# Altium footprint library Quark.PcbLib: 17 footprints (part 1 of 2)
Each footprint in its own frame and in the unit in brackets; x right, y up, seen from the top. Pads: shape width x height; smd on the part's side, far side on the other; paste and mask are expansions set on the pad; w line width, h text height; cw(c..) or ccw(c..) is an arc to the next point about the centre after c.
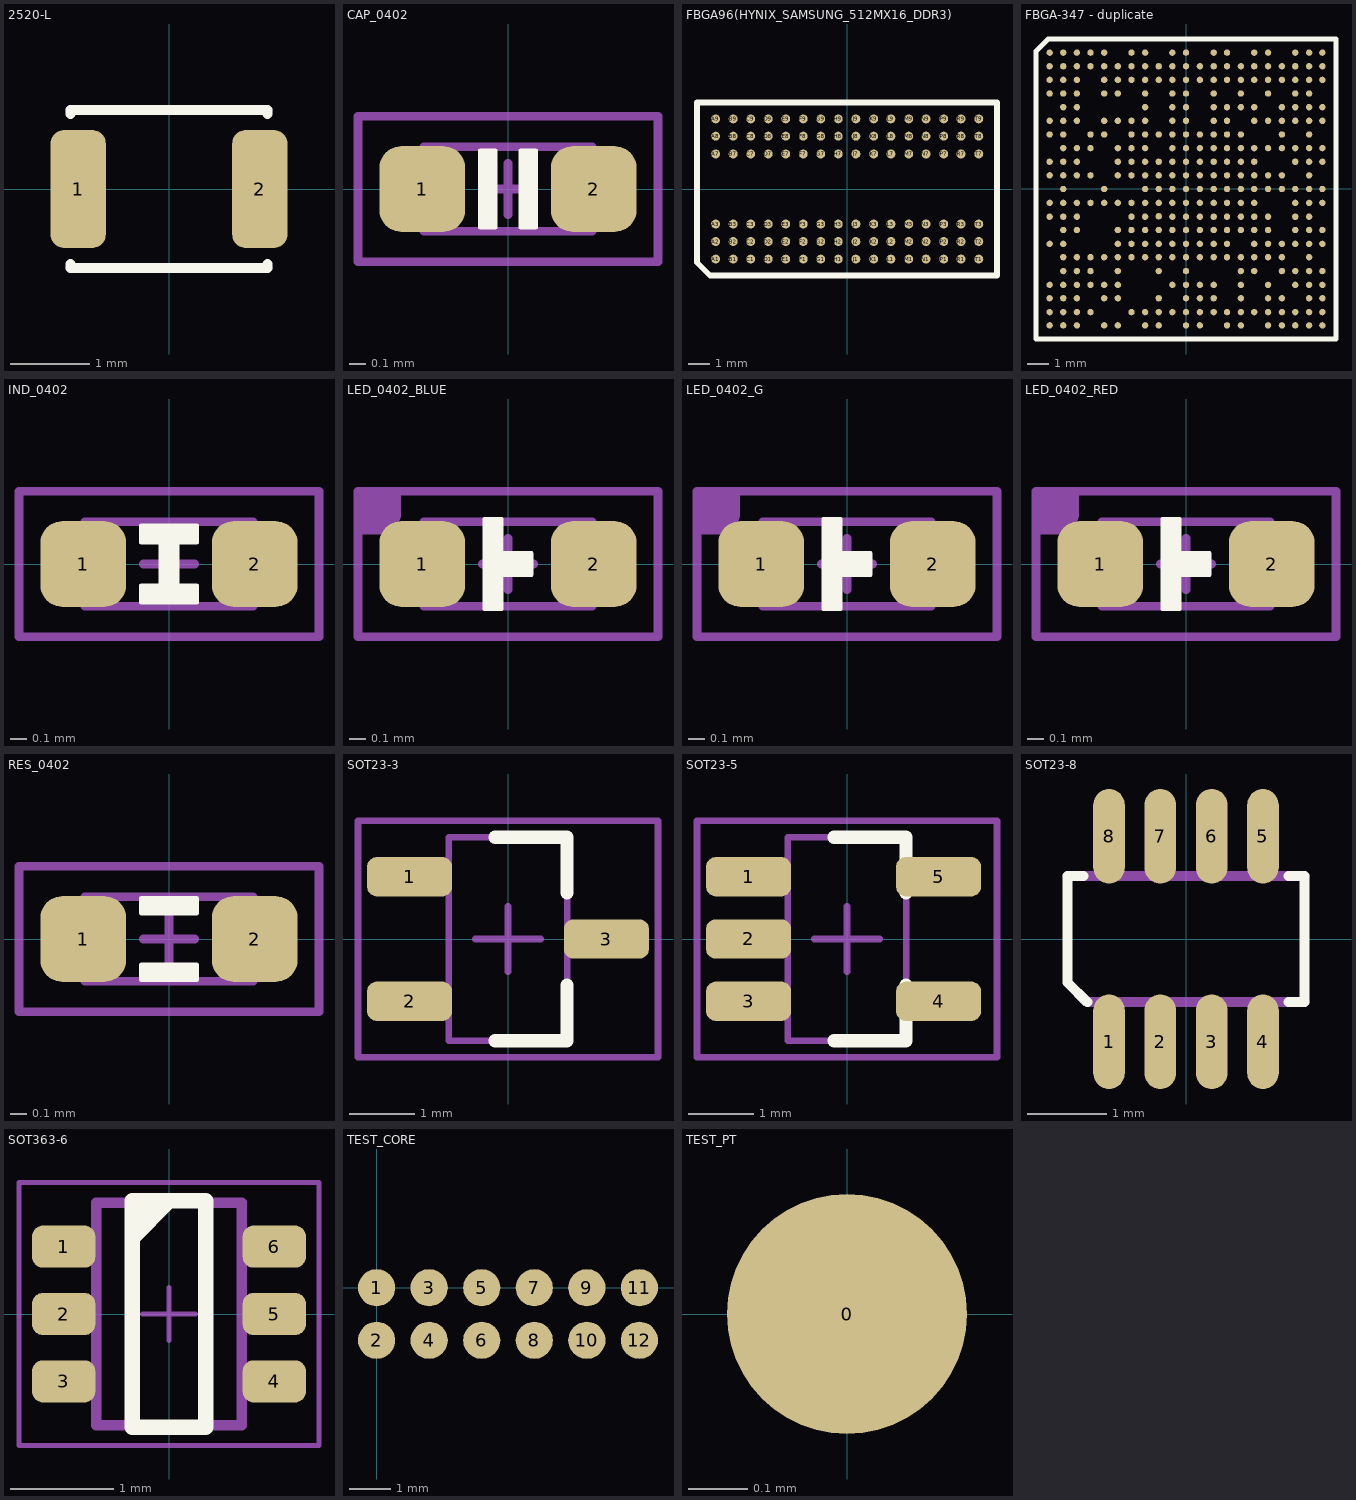
[diagram p0: the footprints below, top view; thin cyan lines are the x and y axes]

## 2520-L [mm]
height 0.8
pads (2):
  rrect50% 0.7x1.5 smd: 1(-1.15,0) 2(1.15,0)
Top Overlay:
  lines w0.127: -1.25,-0.95 -1.25,-1 1.25,-1 1.25,-0.95 ; -1.25,0.95 -1.25,1 1.25,1 1.25,0.95
Mechanical 1:
  lines w0.127: -1.25,-1 1.25,-1 ; -1.25,1 1.25,1
3D body "User Library-Chip InductorINDC2012X95N.STEP": height 0.92, standoff -0.03, extent -1,-0.6 1,0.6

## CAP_0402 [mil]
height 21.65
pads (2):
  rrect50% 20x20 smd: 1(-20,0) 2(20,0)
Top Overlay:
  region: 6.5,-9 3,-9 3,9 6.5,9
  region: -6.5,9 -3,9 -3,-9 -6.5,-9
  lines w1: -6.5,-9 -6.5,9 -3,9 -3,-9 -6.5,-9 ; 3,-9 6.5,-9 6.5,9 3,9 3,-9
Mechanical 13:
  lines w2: -6,0 6,0 ; 0,-6 0,6 ; -19.69,-9.84 19.68,-9.84 19.68,9.84 -19.69,9.84 -19.69,-9.84
Mechanical 14:
  lines w2: -35,-17 35,-17 35,17 -35,17 -35,-17
3D body "CAPC1005X05L.step": height 19.68, standoff 0, extent -19.68,-9.84 19.69,9.85

## FBGA96(HYNIX_SAMSUNG_512MX16_DDR3) [mil] "FBGA96(HYNIX_SAMSUNG_512MX16_DDR3)"
pads (96):
  rrect100% 16x16 smd: A1(-236.22,-125.98) A2(-236.22,-94.49) A3(-236.22,-62.99) A7(-236.22,63) A8(-236.22,95) A9(-236.22,126) B1(-204.72,-125.98) B2(-204.72,-94.49) B3(-204.72,-62.99) B7(-204.72,63) B8(-204.72,95) B9(-204.72,126) C1(-173.23,-125.98) C2(-173.23,-94.49) C3(-173.23,-62.99) C7(-173.23,63) C8(-173.23,95) C9(-173.23,126) D1(-141.73,-125.98) D2(-141.73,-94.49) D3(-141.73,-62.99) D7(-141.73,63) D8(-141.73,95) D9(-141.73,126) E1(-110.24,-125.98) E2(-110.24,-94.49) E3(-110.24,-62.99) E7(-110.24,63) E8(-110.24,95) E9(-110.24,126) F1(-78.74,-125.98) F2(-78.74,-94.49) F3(-78.74,-62.99) F7(-78.74,63) F8(-78.74,95) F9(-78.74,126) G1(-47.24,-125.98) G2(-47.24,-94.49) G3(-47.24,-62.99) G7(-47.24,63) G8(-47.24,95) G9(-47.24,126) H1(-15.75,-125.98) H2(-15.75,-94.49) H3(-15.75,-62.99) H7(-15.75,63) H8(-15.75,95) H9(-15.75,126) J1(16,-125.98) J2(16,-94.49) J3(16,-62.99) J7(16,63) J8(16,95) J9(16,126) K1(48,-125.98) K2(48,-94.49) K3(48,-62.99) K7(48,63) K8(48,95) K9(48,126) L1(79,-125.98) L2(79,-94.49) L3(79,-62.99) L7(79,63) L8(79,95) L9(79,126) M1(111,-125.98) M2(111,-94.49) M3(111,-62.99) M7(111,63) M8(111,95) M9(111,126) N1(142,-125.98) N2(142,-94.49) N3(142,-62.99) N7(142,63) N8(142,95) N9(142,126) P1(174,-125.98) P2(174,-94.49) P3(174,-62.99) P7(174,63) P8(174,95) P9(174,126) R1(205,-125.98) R2(205,-94.49) R3(205,-62.99) R7(205,63) R8(205,95) R9(205,126) T1(237,-125.98) T2(237,-94.49) T3(237,-62.99) T7(237,63) T8(237,95) T9(237,126)
Top Overlay:
  lines w10: -269.69,-131.89 -246.06,-155.51 269.69,-155.51 269.69,155.51 -269.69,155.51 -269.69,-131.89
3D body "User Library-FBGA96_14x8mm.STEP": height 45.28, standoff -7.39, extent -275.59,-157.48 275.59,157.48

## FBGA-347 - duplicate [mil] "FBGA-347"
pads (347):
  rrect100% 12x12 smd: A1(-255.91,255.91) A2(-230.31,255.91) A3(-204.72,255.91) A4(-179.13,255.91) A5(-153.54,255.91) A7(-102.36,255.91) A8(-76.77,255.91) A10(-25.59,255.91) A11(0,255.91) A13(52,255.91) A14(77,255.91) A16(128,255.91) A17(154,255.91) A19(205,255.91) A20(231,255.91) A21(256,255.91) AA1(-255.91,-256) AA2(-230.31,-256) AA3(-204.72,-256) AA5(-153.54,-256) AA6(-127.95,-256) AA8(-76.77,-256) AA9(-51.18,-256) AA11(0,-256) AA12(26,-256) AA14(77,-256) AA15(103,-256) AA17(154,-256) AA18(180,-256) AA19(205,-256) AA20(231,-256) AA21(256,-256) B1(-255.91,230.31) B2(-230.31,230.31) B3(-204.72,230.31) B4(-179.13,230.31) B5(-153.54,230.31) B6(-127.95,230.31) B7(-102.36,230.31) B8(-76.77,230.31) B9(-51.18,230.31) B10(-25.59,230.31) B11(0,230.31) B12(26,230.31) B13(52,230.31) B14(77,230.31) B15(103,230.31) B16(128,230.31) B17(154,230.31) B18(180,230.31) B19(205,230.31) B20(231,230.31) B21(256,230.31) C1(-255.91,204.72) C2(-230.31,204.72) C3(-204.72,204.72) C5(-153.54,204.72) C6(-127.95,204.72) C7(-102.36,204.72) C8(-76.77,204.72) C9(-51.18,204.72) C10(-25.59,204.72) C11(0,204.72) C12(26,204.72) C13(52,204.72) C14(77,204.72) C15(103,204.72) C16(128,204.72) C17(154,204.72) C18(180,204.72) C19(205,204.72) C20(231,204.72) C21(256,204.72) D1(-255.91,179.13) D2(-230.31,179.13) D3(-204.72,179.13) D5(-153.54,179.13) D6(-127.95,179.13) D8(-76.77,179.13) D10(-25.59,179.13) D11(0,179.13) D13(52,179.13) D15(103,179.13) D17(154,179.13) D19(205,179.13) D20(231,179.13) E2(-230.31,153.54) E3(-204.72,153.54) E8(-76.77,153.54) E10(-25.59,153.54) E11(0,153.54) E13(52,153.54) E14(77,153.54) E15(103,153.54) E16(128,153.54) E18(180,153.54) E19(205,153.54) E20(231,153.54) E21(256,153.54) F1(-255.91,127.95) F2(-230.31,127.95) F3(-204.72,127.95) F5(-153.54,127.95) F6(-127.95,127.95) F7(-102.36,127.95) F8(-76.77,127.95) F10(-25.59,127.95) F11(0,127.95) F13(52,127.95) F14(77,127.95) F16(128,127.95) F17(154,127.95) F18(180,127.95) F19(205,127.95) F20(231,127.95) F21(256,127.95) G1(-255.91,102.36) G2(-230.31,102.36) G4(-179.13,102.36) G5(-153.54,102.36) G7(-102.36,102.36) G8(-76.77,102.36) G9(-51.18,102.36) G10(-25.59,102.36) G11(0,102.36) G12(26,102.36) G13(52,102.36) G14(77,102.36) G15(103,102.36) G18(180,102.36) G20(231,102.36) H2(-230.31,76.77) H3(-204.72,76.77) H4(-179.13,76.77) H6(-127.95,76.77) H7(-102.36,76.77) H8(-76.77,76.77) H10(-25.59,76.77) H11(0,76.77) H12(26,76.77) H13(52,76.77) H14(77,76.77) H15(103,76.77) H16(128,76.77) H17(154,76.77) H18(180,76.77) H19(205,76.77) H20(231,76.77) H21(256,76.77) J1(-255.91,51.18) J2(-230.31,51.18) J3(-204.72,51.18) J6(-127.95,51.18) J7(-102.36,51.18) J8(-76.77,51.18) J9(-51.18,51.18) J10(-25.59,51.18) J11(0,51.18) J12(26,51.18) J13(52,51.18) J14(77,51.18) J15(103,51.18) J16(128,51.18) J19(205,51.18) J20(231,51.18) J21(256,51.18) K1(-255.91,25.59) K2(-230.31,25.59) K3(-204.72,25.59) K4(-179.13,25.59) K6(-127.95,25.59) K7(-102.36,25.59) K8(-76.77,25.59) K9(-51.18,25.59) K10(-25.59,25.59) K11(0,25.59) K12(26,25.59) K13(52,25.59) K14(77,25.59) K15(103,25.59) K16(128,25.59) K17(154,25.59) K18(180,25.59) K20(231,25.59) L2(-230.31,0) L5(-153.54,0) L8(-76.77,0) L9(-51.18,0) L10(-25.59,0) L11(0,0) L12(26,0) L13(52,0) L14(77,0) L15(103,0) L16(128,0) L17(154,0) L18(180,0) L19(205,0) L20(231,0) L21(256,0) M1(-255.91,-26) M2(-230.31,-26) M3(-204.72,-26) M4(-179.13,-26) M5(-153.54,-26) M6(-127.95,-26) M7(-102.36,-26) M8(-76.77,-26) M9(-51.18,-26) M10(-25.59,-26) M11(0,-26) M12(26,-26) M13(52,-26) M14(77,-26) M15(103,-26) M16(128,-26) M19(205,-26) M20(231,-26) M21(256,-26) N1(-255.91,-52) N2(-230.31,-52) N3(-204.72,-52) N7(-102.36,-52) N8(-76.77,-52) N9(-51.18,-51.18) N10(-25.59,-52) N11(0,-52) N12(26,-52) N13(52,-52) N14(77,-52) N15(103,-52) N16(128,-52) N17(154,-52) N19(205,-52) N20(231,-52) P2(-230.31,-77) P3(-204.72,-77) P6(-127.95,-77) P7(-102.36,-77) P8(-76.77,-77) P9(-51.18,-77) P10(-25.59,-77) P11(0,-77) P12(26,-77) P13(52,-77) P14(77,-77) P15(103,-77) P16(128,-77) P17(154,-77) P19(205,-77) P20(231,-77) P21(256,-77) R1(-255.91,-103) R2(-230.31,-103) R6(-127.95,-103) R7(-102.36,-103) R8(-76.77,-103) R9(-51.18,-103) R10(-25.59,-103) R11(0,-103) R12(26,-103) R13(52,-103) R14(77,-103) R16(128,-103) R17(154,-103) R18(180,-103) R19(205,-103) R20(231,-103) R21(256,-103) T2(-230.31,-128) T3(-204.72,-128) T4(-179.13,-128) T5(-153.54,-128) T6(-127.95,-128) T7(-102.36,-128) T8(-76.77,-128) T9(-51.18,-128) T10(-25.59,-128) T11(0,-128) T12(26,-128) T13(52,-128) T14(77,-128) T15(103,-128) T16(128,-128) T17(154,-128) T18(180,-128) T20(231,-128) U2(-230.31,-154) U3(-204.72,-154) U4(-179.13,-154) U6(-127.95,-154) U9(-51.18,-154) U11(0,-154) U15(103,-154) U16(128,-154) U18(180,-154) U19(205,-154) U20(231,-154) U21(256,-154) V1(-255.91,-180) V2(-230.31,-180) V3(-204.72,-180) V4(-179.13,-180) V5(-153.54,-180) V6(-127.95,-180) V10(-25.59,-180) V11(0,-180) V12(26,-180) V13(52,-180) V15(103,-180) V17(154,-180) V19(205,-180) V20(231,-180) V21(256,-180) W1(-255.91,-205) W2(-230.31,-205) W3(-204.72,-205) W5(-153.54,-205) W6(-127.95,-205) W9(-51.18,-205) W11(0,-205) W12(26,-205) W13(52,-205) W15(103,-205) W17(154,-205) W18(180,-205) W20(231,-205) W21(256,-205) Y1(-255.91,-231) Y2(-230.31,-231) Y3(-204.72,-231) Y4(-179.13,-231) Y7(-102.36,-231) Y8(-76.77,-231) Y9(-51.18,-231) Y10(-25.59,-231) Y11(0,-231) Y12(26,-231) Y13(52,-231) Y14(77,-231) Y15(103,-231) Y16(128,-231) Y17(154,-231) Y18(180,-231) Y19(205,-231) Y20(231,-231) Y21(256,-231)
Top Overlay:
  lines w10: 281,281.49 -258.51,281.49 -281.5,258.5 -281.5,-281.5 281.49,-281.5 281.49,281
3D body "SW3dPS-BGA-EP9307.STEP": height 53.65, standoff -3.36, extent -275.59,-275.59 275.59,275.59

## IND_0402 [mil]
height 21.65
pads (2):
  rrect50% 20x20 smd: 1(-20,0) 2(20,0)
Top Overlay:
  region: -6.5,9 6.5,9 6.5,5 2,5 2,-5 6.5,-5 6.5,-9 -6.5,-9 -6.5,-5 -2,-5 -2,5 -6.5,5
  lines w1: -6.5,-9 6.5,-9 6.5,-5 2,-5 2,5 6.5,5 6.5,9 -6.5,9 -6.5,5 -2,5 -2,-5 -6.5,-5 -6.5,-9
Mechanical 13:
  lines w2: -6,0 6,0 ; 0,-6 0,6 ; -19.69,-9.84 19.68,-9.84 19.68,9.84 -19.69,9.84 -19.69,-9.84
Mechanical 14:
  lines w2: -35,-17 35,-17 35,17 -35,17 -35,-17
3D body "INDC1005X05L.step": height 19.68, standoff 0, extent -19.68,-9.84 19.69,9.85

## LED_0402_BLUE [mil]
pads (2):
  rrect50% 20x20 smd: 1(-20,0) 2(20,0)
Top Overlay:
  region: -5.5,10.5 -1.5,10.5 -1.5,2.5 5.5,2.5 5.5,-2.5 -1.5,-2.5 -1.5,-10.5 -5.5,-10.5
  lines w1: -5.5,-10.5 -5.5,10.5 -1.5,10.5 -1.5,2.5 5.5,2.5 5.5,-2.5 -1.5,-2.5 -1.5,-10.5 -5.5,-10.5
Mechanical 13:
  lines w2: -6,0 6,0 ; 0,-6 0,6 ; -19.69,-9.84 19.68,-9.84 19.68,9.84 -19.69,9.84 -19.69,-9.84
Mechanical 14:
  region: -35,17 -25,17 -25,12 -25,11.01 -25.76,9.17 -27.17,7.76 -29.01,7 -30,7 -35,7
  lines w2: -35,-17 -35,17 35,17 35,-17 -35,-17
3D body "User Library-led_0402LED0402 blue_.STEP": height 17.72, standoff 0, extent -19.88,-9.84 19.88,9.85

## LED_0402_G [mil]
pads (2):
  rrect50% 20x20 smd: 1(-20,0) 2(20,0)
Top Overlay:
  region: -5.5,10.5 -1.5,10.5 -1.5,2.5 5.5,2.5 5.5,-2.5 -1.5,-2.5 -1.5,-10.5 -5.5,-10.5
  lines w1: -5.5,-10.5 -5.5,10.5 -1.5,10.5 -1.5,2.5 5.5,2.5 5.5,-2.5 -1.5,-2.5 -1.5,-10.5 -5.5,-10.5
Mechanical 13:
  lines w2: -6,0 6,0 ; 0,-6 0,6 ; -19.69,-9.84 19.68,-9.84 19.68,9.84 -19.69,9.84 -19.69,-9.84
Mechanical 14:
  region: -35,17 -25,17 -25,12 -25,11.01 -25.76,9.17 -27.17,7.76 -29.01,7 -30,7 -35,7
  lines w2: -35,-17 -35,17 35,17 35,-17 -35,-17
3D body "User Library-led_0402LED0402 green.STEP": height 17.72, standoff 0, extent -19.88,-9.85 19.88,9.84

## LED_0402_RED [mil]
pads (2):
  rrect50% 20x20 smd: 1(-20,0) 2(20,0)
Top Overlay:
  region: -5.5,10.5 -1.5,10.5 -1.5,2.5 5.5,2.5 5.5,-2.5 -1.5,-2.5 -1.5,-10.5 -5.5,-10.5
  lines w1: -5.5,-10.5 -5.5,10.5 -1.5,10.5 -1.5,2.5 5.5,2.5 5.5,-2.5 -1.5,-2.5 -1.5,-10.5 -5.5,-10.5
Mechanical 13:
  lines w2: -6,0 6,0 ; 0,-6 0,6 ; -19.69,-9.84 19.68,-9.84 19.68,9.84 -19.69,9.84 -19.69,-9.84
Mechanical 14:
  region: -35,17 -25,17 -25,12 -25,11.01 -25.76,9.17 -27.17,7.76 -29.01,7 -30,7 -35,7
  lines w2: -35,-17 35,-17 35,17 -35,17 -35,-17
3D body "User Library-led_0402LED0402 red_.STEP": height 17.72, standoff 0, extent -19.88,-9.84 19.89,9.84

## M.2 [mil]

## RES_0402 [mil]
height 13.78
pads (2):
  rrect50% 20x20 smd: 1(-20,0) 2(20,0)
Top Overlay:
  region: 6.5,-9.5 -6.5,-9.5 -6.5,-6 6.5,-6
  region: -6.5,9.5 6.5,9.5 6.5,6 -6.5,6
  lines w1: -6.5,-9.5 6.5,-9.5 6.5,-6 -6.5,-6 -6.5,-9.5 ; -6.5,6 -6.5,9.5 6.5,9.5 6.5,6 -6.5,6
Mechanical 13:
  lines w2: -6,0 6,0 ; 0,-6 0,6 ; -19.69,-9.84 -19.69,9.84 19.68,9.84 19.68,-9.84 -19.69,-9.84
Mechanical 14:
  lines w2: -35,-17 35,-17 35,17 -35,17 -35,-17
3D body "RESC1005X03L.step": height 13.78, standoff 0, extent -19.68,-9.84 19.69,9.85

## SOT23-3 [mm] "SOT23, 3-Leads, Body 3.1x3.0mm (max), Pitch 0.95mm, IPC Medium Density"
height 1.2
pads (3):
  rrect50% 1.3x0.6 smd: 1(-1.5,0.95) 2(-1.5,-0.95) 3(1.5,0)
Top Overlay:
  lines w0.2: -0.2,-1.55 0.9,-1.55 0.9,-0.7 ; -0.2,1.55 0.9,1.55 0.9,0.7
Mechanical 13:
  lines w0.1: -0.9,-1.55 0.9,-1.55 0.9,1.55 -0.9,1.55 -0.9,-1.55
Mechanical 15:
  lines w0.1: -0.5,0 0.5,0 ; 0,-0.5 0,0.5 ; -2.286,-1.8 2.286,-1.8 2.286,1.8 -2.286,1.8 -2.286,-1.8
3D body "SOT-23-3.stp": height 1.2, standoff 0, extent -1.298,-1.45 1.502,1.45

## SOT23-5 [mm] "SOT23, 3-Leads, Body 3.1x3.0mm (max), Pitch 0.95mm, IPC Medium Density"
height 1.2
pads (5):
  rrect50% 1.3x0.6 smd: 1(-1.5,0.95) 2(-1.5,0) 3(-1.5,-0.95) 4(1.396,-0.95) 5(1.396,0.95)
Top Overlay:
  lines w0.2: -0.2,-1.55 0.9,-1.55 0.9,-0.7 ; -0.2,1.55 0.9,1.55 0.9,0.7
Mechanical 13:
  lines w0.1: -0.9,-1.55 0.9,-1.55 0.9,1.55 -0.9,1.55 -0.9,-1.55
Mechanical 15:
  lines w0.1: -0.5,0 0.5,0 ; 0,-0.5 0,0.5 ; -2.286,-1.8 2.286,-1.8 2.286,1.8 -2.286,1.8 -2.286,-1.8
3D body "PCB1.stp": height 1.2, standoff 0, extent -1.476,-1.452 1.324,1.448

## SOT23-8 [mm]
height 0.8
pads (8):
  oval 0.4x1.2 smd: 1(-0.975,-1.3) 2(-0.325,-1.3) 3(0.325,-1.3) 4(0.975,-1.3) 5(0.975,1.3) 6(0.325,1.3) 7(-0.325,1.3) 8(-0.975,1.3)
Top Overlay:
  lines w0.127: -1.3,0.8 -1.5,0.8 -1.5,-0.55 -1.25,-0.8 ; 1.3,-0.8 1.5,-0.8 1.5,0.8 1.3,0.8
Mechanical 1:
  lines w0.127: -1.5,0.8 1.5,0.8 ; -1.25,-0.8 1.5,-0.8
3D body "User Library-sot238.STEP": height 1.2, standoff 0, extent -1.445,-1.425 1.496,1.375

## SOT363-6 [mil]
height 43.31
pads (6):
  rrect50% 24x16 smd: 1(-40,25.59) 2(-40,0) 3(-40,-25.59) 4(40,-25.59) 5(40,0) 6(40,25.59)
Top Overlay:
  region: -14,43 0,43 -14,29
  lines w6: -14,29 0,43 ; -14,-43 14,-43 14,43 -14,43 -14,-43
Mechanical 13:
  lines w2: -10,0 10,0 ; 0,-10 0,10
  lines w4: -27.56,-42.32 27.56,-42.32 27.56,42.32 -27.56,42.32 -27.56,-42.32
Mechanical 14:
  lines w2: -57,-50 57,-50 57,50 -57,50 -57,-50
3D body "SW3dPS-SC70-6.STEP": height 36.73, standoff -0.67, extent -41.33,-39.37 41.35,39.37

## TEST_CORE [mm]
height 0.8
pads (12):
  round 0.9 smd: 1(0,0) 2(0,-1.27) 3(1.27,0) 4(1.27,-1.27) 5(2.54,0) 6(2.54,-1.27) 7(3.81,0) 8(3.81,-1.27) 9(5.08,0) 10(5.08,-1.27) 11(6.35,0) 12(6.35,-1.27)

## TEST_PT [mil]
height 31.5
pads (1):
  rrect100% 16x16 smd: 0(0,0.01)